# Altium schematic symbol library Logic Gates.SchLib: 1 symbol
Pins are listed as number, name and electrical type; pins without a type are passive.

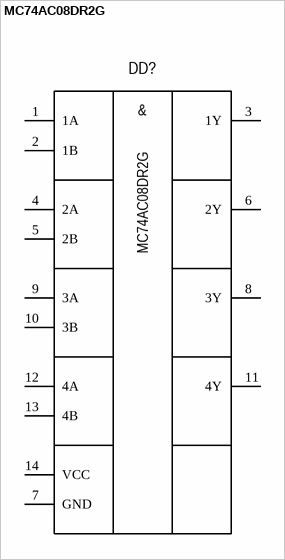
[diagram p0: symbol MC74AC08DR2G]

## MC74AC08DR2G
designator DD?
GATE AND 4CH SOIC-14; Manufacturer: ON Semiconductor; Group: Digital; Voltage supply: 2V - 6V; Chanels: 4; Current output: 24mA; Component: Logic Gates; Logic level low: 0.9V - 1.65V; Logic level high: 2.1V - 3.85V; Propagation delay: 7.5ns; Inputs: 2; Package: SOIC-14; Part name: MC74AC08DR2G; Operating temperature: -40°C +85°C; Height: 1.75mm; Dimension: 8.75mm x 6.20mm; Mounting type: Surface mount; Logic type: AND
footprint SOIC-14N
pins: 1 1A, 2 1B, 3 1Y, 4 2A, 5 2B, 6 2Y, 7 GND, 8 3Y, 9 3A, 10 3B, 11 4Y, 12 4A, 13 4B, 14 VCC
text: &